# Altium footprint library lib2.PcbLib: 15 footprints
Each footprint in its own frame and in the unit in brackets; x right, y up, seen from the top. Pads: shape width x height; smd on the part's side, far side on the other; paste and mask are expansions set on the pad; w line width, h text height; cw(c..) or ccw(c..) is an arc to the next point about the centre after c.
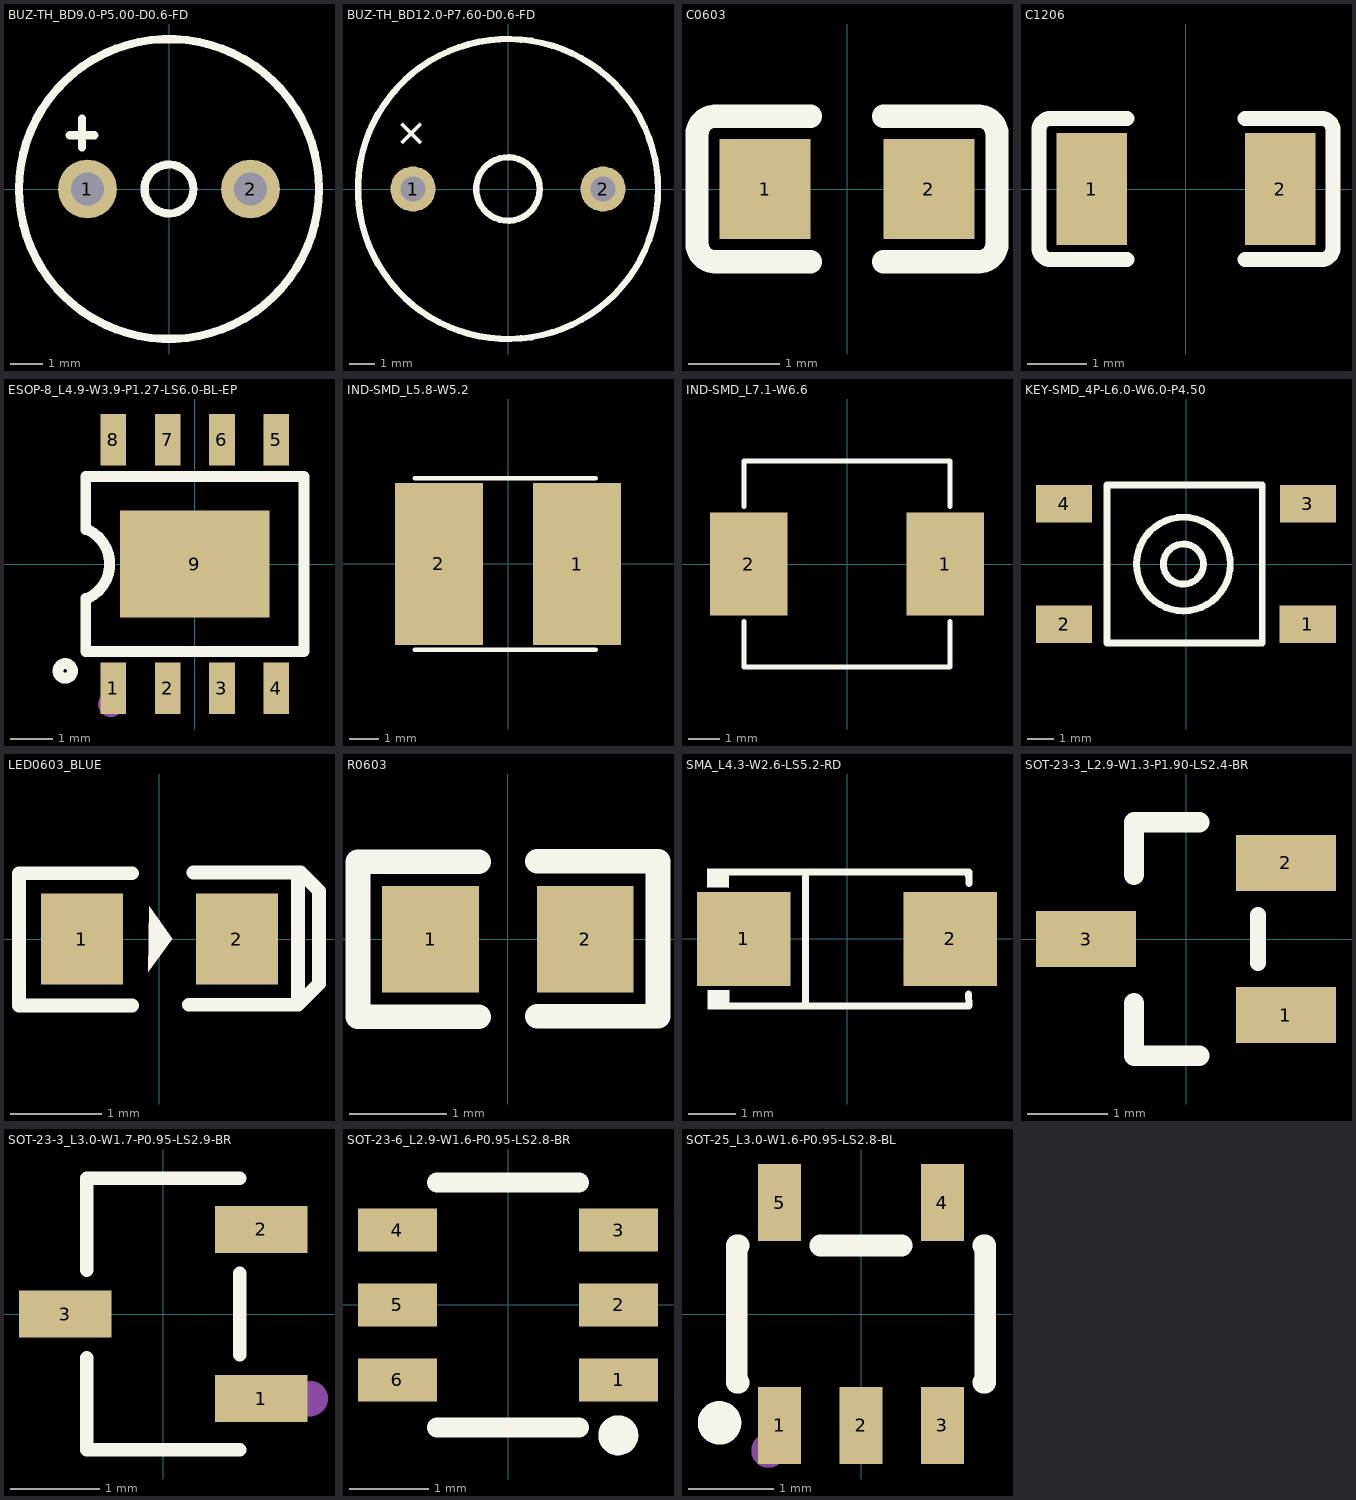
[diagram p0: the footprints below, top view; thin cyan lines are the x and y axes]

## BUZ-TH_BD9.0-P5.00-D0.6-FD [mm]
pads (2):
  round 1.8 hole 1: 1(-2.5,0) 2(2.5,0)
Top Overlay:
  circle w0.254: c0,0 r4.6
  circle w0.254: c0,0 r0.75
  lines w0.254: -3.048,1.651 -2.286,1.651 ; -2.667,1.27 -2.667,2.159

## BUZ-TH_BD12.0-P7.60-D0.6-FD [mm]
pads (2):
  round 1.8 hole 1: 1(-3.8,0) 2(3.8,0)
Top Overlay:
  circle w0.254: c0,0 r1.27
  circle w0.254: c0,0 r6
  text "+" at -3.996,1.316 h1.27

## C0603 [mm]
pads (2):
  rect 1x1.1 smd: 1(-0.9,0) 2(0.9,0)
Top Overlay:
  lines w0.254: -0.4,-0.8 -1.4,-0.8 -1.45,-0.8 cw(c-1.45,-0.6) -1.65,-0.6 -1.65,0.6 cw(c-1.45,0.6) -1.45,0.8 -1.4,0.8 -0.4,0.8 ; 0.4,-0.8 1.4,-0.8 1.45,-0.8 ccw(c1.45,-0.6) 1.65,-0.6 1.65,0.6 ccw(c1.45,0.6) 1.45,0.8 1.4,0.8 0.4,0.8

## C1206 [mm]
pads (2):
  rect 1.2x1.9 smd: 1(-1.6,0) 2(1.6,0)
Top Overlay:
  lines w0.254: -1,-1.2 -2.2,-1.2 -2.3,-1.2 cw(c-2.3,-1) -2.5,-1 -2.5,1 cw(c-2.3,1) -2.3,1.2 -2.2,1.2 -1,1.2 ; 1,-1.2 2.2,-1.2 2.3,-1.2 ccw(c2.3,-1) 2.5,-1 2.5,1 ccw(c2.3,1) 2.3,1.2 2.2,1.2 1,1.2

## ESOP-8_L4.9-W3.9-P1.27-LS6.0-BL-EP [mm]
pads (9):
  rect 0.6x1.2 smd: 1(-1.905,-2.908) 2(-0.635,-2.908) 3(0.635,-2.908) 4(1.905,-2.908) 5(1.905,2.908) 6(0.635,2.908) 7(-0.635,2.908) 8(-1.905,2.908)
  rect 3.5x2.5 smd: 9(0,0)
Top Overlay:
  circle w0.254: c-3.03,-2.5 r0.17
  lines w0.254: -2.55,-0.8 -2.55,-2.05 2.55,-2.05 2.55,2.05 -2.55,2.05 -2.55,0.8 ; -2.5,-0.8 ccw(c-2.875,0) -2.5,0.8
Mechanical 15:
  circle w0.3: c-1.96,-3.28 r0.15

## IND-SMD_L5.8-W5.2 [mm]
pads (2):
  rect 3x5.5 smd: 1(2.35,0) 2(-2.351,0)
Top Overlay:
  lines w0.152: -3.175,-2.921 2.977,-2.921 ; -3.175,2.921 2.977,2.921

## IND-SMD_L7.1-W6.6 [mm]
pads (2):
  rect 2.474x3.32 smd: 1(3.153,0) 2(-3.153,0)
Top Overlay:
  lines w0.152: -3.302,-1.84 -3.302,-3.302 3.302,-3.302 3.302,-1.84 ; -3.302,1.84 -3.302,3.302 3.302,3.302 3.302,1.84

## KEY-SMD_4P-L6.0-W6.0-P4.50 [mm]
pads (4):
  rect 2.1x1.4 smd: 1(4.551,-2.25) 2(-4.553,-2.25) 3(4.554,2.25) 4(-4.554,2.25)
Top Overlay:
  circle w0.254: c-0.096,-0.003 r1.75
  circle w0.254: c-0.096,-0.003 r0.749
  lines w0.254: -2.952,-2.949 2.846,-2.949 2.846,2.95 -2.952,2.95 -2.952,-2.949

## LED0603_BLUE [mm]
pads (2):
  rect 0.9x1 smd: 1(-0.85,0) 2(0.85,0)
Top Overlay:
  region: -0.11,0.36 -0.12,-0.36 0.14,0
  lines w0.15: -0.3,-0.73 -1.54,-0.73 -1.54,0.72 -0.3,0.72 ; 0.32,-0.72 1.52,-0.72 ; 0.37,0.73 1.52,0.73 ; 1.52,-0.72 1.52,0.73 ; 1.52,-0.72 1.72,-0.52 1.75,-0.49 1.75,0.53 1.55,0.73 1.52,0.73

## R0603 [mm]
pads (2):
  rect 1x1.1 smd: 1(-0.8,0) 2(0.8,0)
Top Overlay:
  lines w0.254: -0.3,-0.8 -1.55,-0.8 -1.55,0.8 -0.3,0.8 ; 0.301,-0.795 1.551,-0.795 1.551,0.805 0.301,0.805

## SMA_L4.3-W2.6-LS5.2-RD [mm]
pads (2):
  rect 2x2 smd: 1(-2.2,0) 2(2.2,0)
Top Overlay:
  region: -2.52,1.502 -2.521,1.096 -2.981,1.1 -2.977,1.502
  region: -2.512,-1.096 -2.513,-1.503 -2.973,-1.498 -2.969,-1.096
  lines w0.152: -2.596,-1.426 2.596,-1.426 ; -2.596,1.426 2.596,1.426 2.603,1.187 ; -0.884,-1.426 -0.884,1.426 ; 2.593,-1.176 2.6,-1.415
Mechanical 15:
  region: -2.317,-0.101 -2.317,0.101 -1.507,0.101 -1.507,-0.101
  region: 2.29,-0.09 2.29,0.112 1.48,0.112 1.48,-0.09
  region: 2.014,-0.675 2.014,0.675 1.811,0.675 1.811,-0.675

## SOT-23-3_L2.9-W1.3-P1.90-LS2.4-BR [mm]
pads (3):
  rect 1.25x0.7 smd: 1(1.25,-0.95) 2(1.25,0.95) 3(-1.25,0)
Top Overlay:
  lines w0.2: 0.9,-0.3 0.9,0.3
  lines w0.254: -0.65,-0.8 -0.65,-1.46 0.165,-1.46 ; 0.165,1.46 -0.65,1.46 ; -0.65,0.8 -0.65,1.46 ; -0.65,0.8 -0.65,1.46 ; -0.65,0.8 -0.65,1.46

## SOT-23-3_L3.0-W1.7-P0.95-LS2.9-BR [mm]
pads (3):
  rect 1.037x0.532 smd: 1(1.101,-0.95) 2(1.101,0.95) 3(-1.101,0)
Top Overlay:
  lines w0.152: -0.859,-0.495 -0.859,-1.526 0.859,-1.526 ; -0.859,0.495 -0.859,1.526 0.859,1.526 ; 0.859,-0.455 0.859,0.455
Mechanical 15:
  circle w0.2: c1.65,-0.95 r0.1

## SOT-23-6_L2.9-W1.6-P0.95-LS2.8-BR [mm]
pads (6):
  rect 1x0.55 smd: 1(1.4,-0.95) 2(1.4,0) 3(1.4,0.95) 4(-1.4,0.95) 5(-1.4,0) 6(-1.4,-0.95)
Top Overlay:
  circle w0.254: c1.397,-1.651 r0.127
  lines w0.254: -0.9,-1.55 0.9,-1.55 ; -0.9,1.55 0.9,1.55
Mechanical 15:
  circle w0.2: c1.4,-0.95 r0.1

## SOT-25_L3.0-W1.6-P0.95-LS2.8-BL [mm]
pads (5):
  rect 0.5x0.9 smd: 1(-0.95,-1.3) 2(0,-1.3) 3(0.95,-1.3) 4(0.95,1.3) 5(-0.95,1.3)
Top Overlay:
  circle w0.254: c-1.651,-1.27 r0.127
  lines w0.254: -1.426,-0.8 -1.45,-0.8 -1.45,0.8 -1.426,0.8 ; -0.474,0.8 0.474,0.8 ; 1.426,-0.8 1.45,-0.8 1.45,0.8 1.426,0.8
Mechanical 15:
  circle w0.2: c-1.081,-1.593 r0.1